# EAGLE library part LPCXPRESSO_LPC1347 (library LPCXpresso_boards)
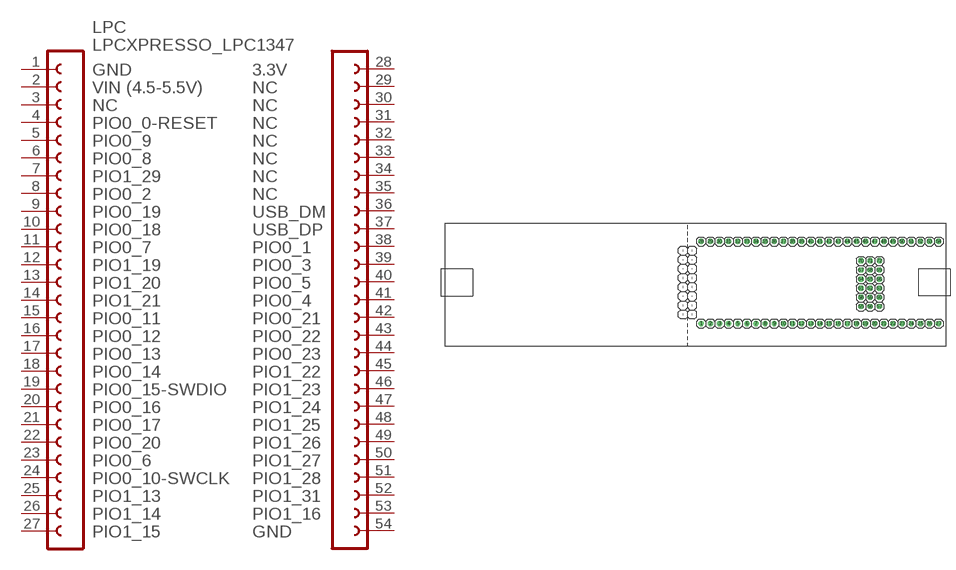
[diagram p5: symbol with the pads of LPCXPRESSO_LPC11U14; footprint LPCXPRESSO_LPC11U14]

Designator prefix LPC

## LPCXPRESSO_LPC1347  [LPCXPRESSO_LPC11U14]
1  1  pas
2  2  pas
3  3  pas
4  4  pas
5  5  pas
6  6  pas
7  7  pas
8  8  pas
9  9  pas
10  10  pas
11  11  pas
12  12  pas
13  13  pas
14  14  pas
15  15  pas
16  16  pas
17  17  pas
18  18  pas
19  19  pas
20  20  pas
21  21  pas
22  22  pas
23  23  pas
24  24  pas
25  25  pas
26  26  pas
27  27  pas
28  28  pas
29  29  pas
30  30  pas
31  31  pas
32  32  pas
33  33  pas
34  34  pas
35  35  pas
36  36  pas
37  37  pas
38  38  pas
39  39  pas
40  40  pas
41  41  pas
42  42  pas
43  43  pas
44  44  pas
45  45  pas
46  46  pas
47  47  pas
48  48  pas
49  49  pas
50  50  pas
51  51  pas
52  52  pas
53  53  pas
54  54  pas

## Footprint LPCXPRESSO_LPC11U14 (pad centres in mm)
drill 1 octagon: 1 4.445,-10.795; 2 6.985,-10.795; 3 9.525,-10.795; 4 12.065,-10.795; 5 14.605,-10.795; 6 17.145,-10.795; 7 19.685,-10.795; 8 22.225,-10.795; 9 24.765,-10.795; 10 27.305,-10.795; 11 29.845,-10.795; 12 32.385,-10.795; 13 34.925,-10.795; 14 37.465,-10.795; 15 40.005,-10.795; 16 42.545,-10.795; 17 45.085,-10.795; 18 47.625,-10.795; 19 50.165,-10.795; 20 52.705,-10.795; 21 55.245,-10.795; 22 57.785,-10.795; 23 60.325,-10.795; 24 62.865,-10.795; 25 65.405,-10.795; 26 67.945,-10.795; 27 70.485,-10.795; 28 4.445,12.065; 29 6.985,12.065; 30 9.525,12.065; 31 12.065,12.065; 32 14.605,12.065; 33 17.145,12.065; 34 19.685,12.065; 35 22.225,12.065; 36 24.765,12.065; 37 27.305,12.065; 38 29.845,12.065; 39 32.385,12.065; 40 34.925,12.065; 41 37.465,12.065; 42 40.005,12.065; 43 42.545,12.065; 44 45.085,12.065; 45 47.625,12.065; 46 50.165,12.065; 47 52.705,12.065; 48 55.245,12.065; 49 57.785,12.065; 50 60.325,12.065; 51 62.865,12.065; 52 65.405,12.065; 53 67.945,12.065; 54 70.485,12.065; 55 48.895,-6.045; 56 51.435,-6.045; 57 53.975,-6.045; 58 48.895,-3.505; 59 51.435,-3.505; 60 53.975,-3.505; 61 48.895,-0.965; 62 51.435,-0.965; 63 53.975,-0.965; 64 48.895,1.575; 65 51.435,1.575; 66 53.975,1.575; 67 48.895,4.115; 68 51.435,4.115; 69 53.975,4.115; 70 48.895,6.655; 71 51.435,6.655; 72 53.975,6.655